# Altium schematic symbol library StepperMotorController.SchLib: 6 symbols
Pins are listed as number, name and electrical type; pins without a type are passive.

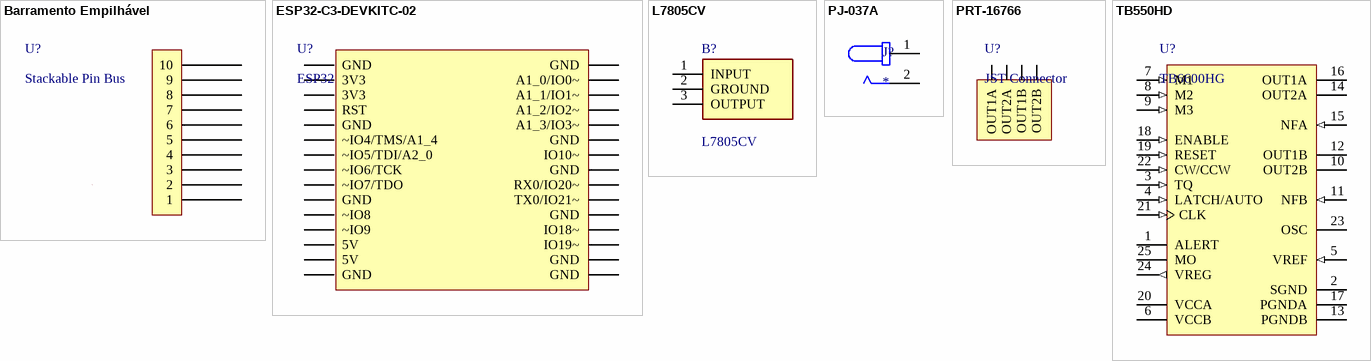
[diagram p0: symbols Barramento Empilhável to TB550HD]

## Barramento Empilhável
designator U?, comment Stackable Pin Bus
10 pinos, Passo 2.54mm, Dimensões da barra 26x2x8mm
footprint STACKABLE_PIN_BUS
pins: 1, 2, 3, 4, 5, 6, 7, 8, 9, 10

## ESP32-C3-DEVKITC-02
designator U?, comment ESP32
Manufacturer: Espressif Systems; Manufacturer Part Number: ESP32-C3-DEVKITC-02; Supplier: Digikey; Supplier Part Number: 1965-ESP32-C3-DEVKITC-02-ND; RoHS: No; Category: RF Semiconductors and Devices; Stock: 1074; Pricing: 1=8 (USD)
footprint ESP32
pins: 1 GND, 2 3V3, 3 3V3, 4 RST, 5 GND, 6 ~IO4/TMS/A1_4, 7 ~IO5/TDI/A2_0, 8 ~IO6/TCK, 9 ~IO7/TDO, 10 GND, 11 ~IO8, 12 ~IO9, 13 5V, 14 5V, 15 GND, 16 GND, 17 GND, 18 IO19~, 19 IO18~, 20 GND, 21 TX0/IO21~, 22 RX0/IO20~, 23 GND, 24 IO10~, 25 GND, 26 A1_3/IO3~, 27 A1_2/IO2~, 28 A1_1/IO1~, 29 A1_0/IO0~, 30 GND

## L7805CV
designator B?
Linear voltage regulator,L7805CV 5V 1.5A STMicroelectronics L7805CV, Single Linear Voltage Regulator, 1.5A 5 V, 3-Pin TO-220; Geometry.Height: 4.6mm; Mouser Part Number: 511-L7805CV; Mouser Price/Stock: https://www.mouser.co.uk/ProductDetail/STMicroelectronics/L7805CV?qs=9NrABl3fj%2FqplZAHiYUxWg%3D%3D; Manufacturer_Name: STMicroelectronics; Manufacturer_Part_Number: L7805CV; Datasheet Link: http://www.st.com/web/en/resource/technical/document/datasheet/CD00000444.pdf
footprint TO255P460X1020X2008-3P
pins: 1 INPUT, 2 GROUND, 3 OUTPUT

## PJ-037A
designator J?
2.0 mm Center Pin, 2.5 A, Right Angle, Through Hole, Dc Power Jack Connector; MP: PJ-037A; Package: None; Value: *; Availability: Unavailable; Price: None
footprint CUI_PJ-037A
pins: 1, 2

## PRT-16766
designator U?, comment JST Connector
SparkFun Accessories Qwiic JST Connector - SMD 4-Pin (Vertical); Manufacturer Part Number: PRT-16766; Supplier: Mouser; Supplier Part Number: 474-PRT-16766; Manufacturer: SparkFun; RoHS: No; Category: Connectors; Stock: 1369; Pricing: 1=0.57, 10=0.57, 50=0.57, 100=0.57, 1000=0.57, 10000=0.57 (USD)
pins: 1 OUT1A, 2 OUT2A, 3 OUT1B, 4 OUT2B

## TB550HD
designator U?, comment TB6600HG
PWM Chopper-Type Bipolar Stepping Motor Driver IC, 5.5 V Input Voltage, 4.5 A Output Current, -30 to 85 degC, 25-Pin FM (HZIP25-1.00F); Manufacturer: Toshiba; OSC Frequency: 2.0 to 6.0 MHz; VIN (Typ.): 5.5 V; Power Supply Voltage (Max.): 45 V; Clock Frequency (Max.): 200 KHz; Output Current (Typ.): 4.5 A; DatasheetVersion: Oct-13; ComponentLink2Description: Datasheet; ComponentLink1Description: Manufacturer URL; ComponentLink1URL: http://www.toshiba-components.com/; PackageDescription: 25-Pin HZIP25-P-1.00F, Body 4.5 x 29.3 mm, Pitch 1 mm; PartNumber: TB6600HG; Operating Temperature: -30 to 85 degC; ComponentLink2URL: http://www.toshiba-components.com/docs/linear/TB6600HG_en_datasheet.pdf; Mounting Technology: Through Hole; PackageReference: HZIP25-P-1.00F-25
footprint TOSH-HZIP25-1.00F-25 (FM, 25-Leads, Body 4.5x29.3mm, Pitch 1mm)
pins: 1 ALERT (oc) "TSD / ISD monitor pin", 2 SGND (power) "Signal ground", 3 TQ (in) "Torque (output current) setting input pin", 4 LATCH/AUTO (in) "Select a return type for TSD.", 5 VREF (in) "Voltage input for 100% current level", 6 VCCB (power) "Power supply", 7 M1 (in) "Excitation mode setting input pin", 8 M2 (in) "Excitation mode setting input pin", 9 M3 (in) "Excitation mode setting input pin", 10 OUT2B (hiz) "B channel output 2", 11 NFB (in) "B channel output current detection pin", 12 OUT1B (hiz) "B channel output 1", 13 PGNDB (power) "Power ground", 14 OUT2A (hiz) "A channel output 2", 15 NFA (in) "A channel output current detection pin", 16 OUT1A (hiz) "A channel output 1", 17 PGNDA (power) "Power ground", 18 ENABLE (in) "Enable signal input pin", 19 RESET (in) "Reset signal input pin", 20 VCCA (power) "Power supply", 21 CLK (in) "CLK pulse input pin", 22 CW/CCW (in) "Forward/reverse control pin", 23 OSC "Resistor connection pin for internal oscillation setting", 24 VREG (out) "Control side connection pin for power capacitor", 25 MO (oc) "Electrical angle monitor pin"